# EAGLE library part 615032137921 (library Wurth_Elektronik_Electromechanic_Input-Output_Connectors_rev15c)
WR-MJ Horizontal Shielded Ganged 4 Ports with LED & EMI Panel Finger 8P8C Modular Jack Tab Up, 32 Pins=>Code : Con_I-O_MJ-H_Shielded_Up_615032137921 <http://katalog.we-online.de/media/images/eican/Con_I-O_MJ-H_Shielded_Up_615032137921_pf2.jpg> Details see: http://katalog.we-online.de/en/em/615_032_137_921 Created 2014-07-10, Karrer Zheng 2014 (C) Würth Elektronik
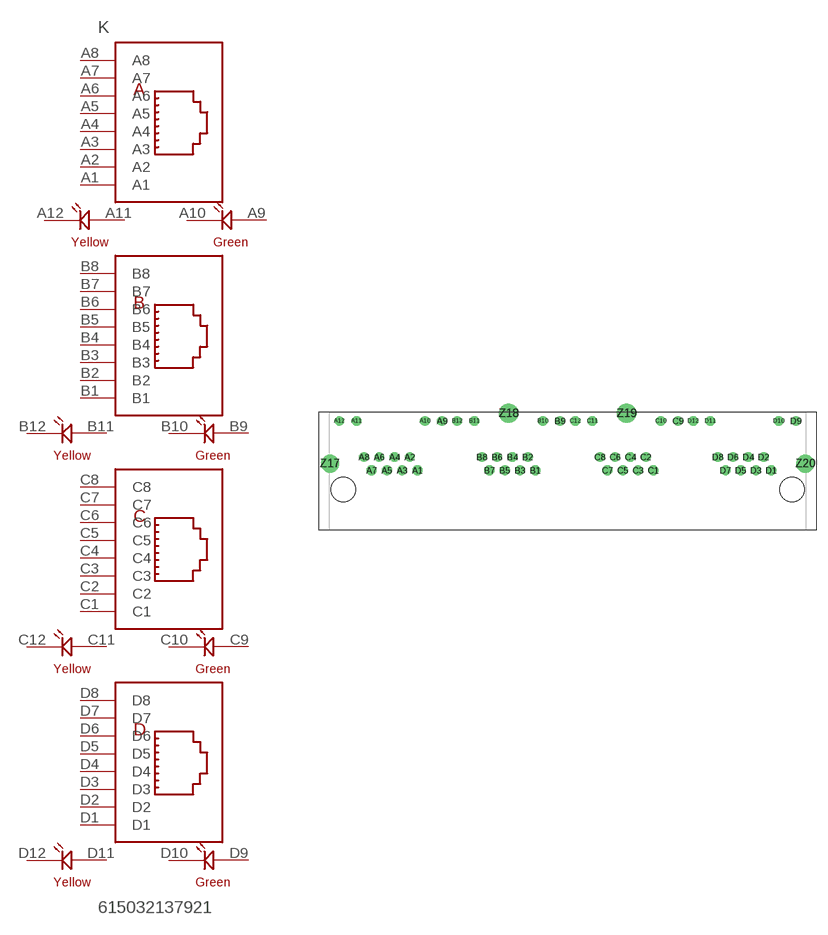
[diagram p135: symbol with the pads of 615032137921; footprint 615032137921]

Designator prefix K

## 615032137921  [615032137921]
A1  A1  pas
A2  A2  pas
A3  A3  pas
A4  A4  pas
A5  A5  pas
A6  A6  pas
A7  A7  pas
A8  A8  pas
A9  A9  pas
A10  A10  pas
A11  A11  pas
A12  A12  pas
B1  B1  pas
B2  B2  pas
B3  B3  pas
B4  B4  pas
B5  B5  pas
B6  B6  pas
B7  B7  pas
B8  B8  pas
B9  B9  pas
B10  B10  pas
B11  B11  pas
B12  B12  pas
C1  C1  pas
C2  C2  pas
C3  C3  pas
C4  C4  pas
C5  C5  pas
C6  C6  pas
C7  C7  pas
C8  C8  pas
C9  C9  pas
C10  C10  pas
C11  C11  pas
C12  C12  pas
D1  D1  pas
D2  D2  pas
D3  D3  pas
D4  D4  pas
D5  D5  pas
D6  D6  pas
D7  D7  pas
D8  D8  pas
D9  D9  pas
D10  D10  pas
D11  D11  pas
D12  D12  pas

## Footprint 615032137921 (pad centres in mm)
WR-MJ Horizontal Shielded Ganged 4 Ports with LED & EMI Panel Finger 8P8C Modular Jack Tab Up, 32 Pins
drill 0.8: A1 -20.055,-0.89; A2 -21.075,0.89; A3 -22.095,-0.89; A4 -23.115,0.89; A5 -24.135,-0.89; A6 -25.155,0.89; A7 -26.175,-0.89; A8 -27.195,0.89; A9 -16.765,5.71; A10 -19.055,5.71; A11 -28.195,5.71; A12 -30.485,5.71; B1 -4.305,-0.89; B2 -5.325,0.89; B3 -6.345,-0.89; B4 -7.365,0.89; B5 -8.385,-0.89; B6 -9.405,0.89; B7 -10.425,-0.89; B8 -11.445,0.89; B9 -1.015,5.71; B10 -3.305,5.71; B11 -12.445,5.71; B12 -14.735,5.71; C1 11.445,-0.89; C2 10.425,0.89; C3 9.405,-0.89; C4 8.385,0.89; C5 7.365,-0.89; C6 6.345,0.89; C7 5.325,-0.89; C8 4.305,0.89; C9 14.735,5.71; C10 12.445,5.71; C11 3.305,5.71; C12 1.015,5.71; D1 27.195,-0.89; D2 26.175,0.89; D3 25.155,-0.89; D4 24.135,0.89; D5 23.115,-0.89; D6 22.095,0.89; D7 21.075,-0.89; D8 20.055,0.89; D9 30.485,5.71; D10 28.195,5.71; D11 19.055,5.71; D12 16.765,5.71
drill 1.6: Z17 -31.75,0; Z20 31.75,0
drill 1.7: Z18 -7.875,6.73; Z19 7.875,6.73
hole 3.25 at -29.975,-3.43
hole 3.25 at 29.975,-3.43